# Altium schematic symbol library Wyswietlacz.SchLib: 2 symbols
Pins are listed as number, name and electrical type; pins without a type are passive.

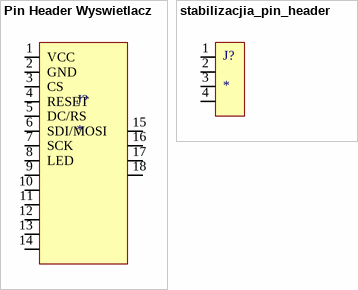
[diagram p0: symbols Pin Header Wyswietlacz to stabilizacjia_pin_header]

## Pin Header Wyswietlacz
designator J?
footprint pin_header_LCD
pins: 1 VCC, 2 GND, 3 CS, 4 RESET, 5 DC/RS, 6 SDI/MOSI, 7 SCK, 8 LED, 9, 10, 11, 12, 13, 14, 15, 16, 17, 18

## stabilizacjia_pin_header
designator J?
pins: 1, 2, 3, 4